# EAGLE library part LVDC_VOTER_HYBRID (library LVDC_Voter_Hybrid)
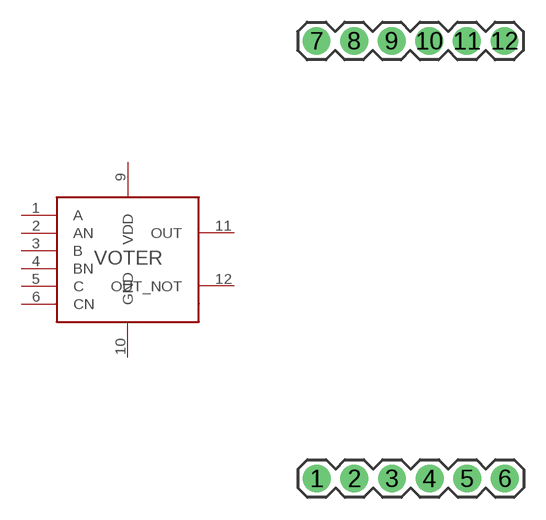
[diagram p0: symbol with the pads of LVDC_VOTER_HYBRID; footprint LVDC_VOTER_HYBRID]

Designator prefix -

## LVDC_VOTER_HYBRID  [LVDC_VOTER_HYBRID]
1  A
2  AN
3  B
4  BN
5  C
6  CN
9  VDD
10  GND
11  OUT
12  OUT_NOT

## Footprint LVDC_VOTER_HYBRID (pad centres in mm)
drill 1.016 pad 1.88: 1 0,0; 2 2.54,0; 3 5.08,0; 4 7.62,0; 5 10.16,0; 6 12.7,0; 7 -0.02,29.59; 8 2.52,29.59; 9 5.06,29.59; 10 7.6,29.59; 11 10.14,29.59; 12 12.68,29.59